# Altium footprint library PcbLib1.PcbLib: 12 footprints
Each footprint in its own frame and in the unit in brackets; x right, y up, seen from the top. Pads: shape width x height; smd on the part's side, far side on the other; paste and mask are expansions set on the pad; w line width, h text height; cw(c..) or ccw(c..) is an arc to the next point about the centre after c.
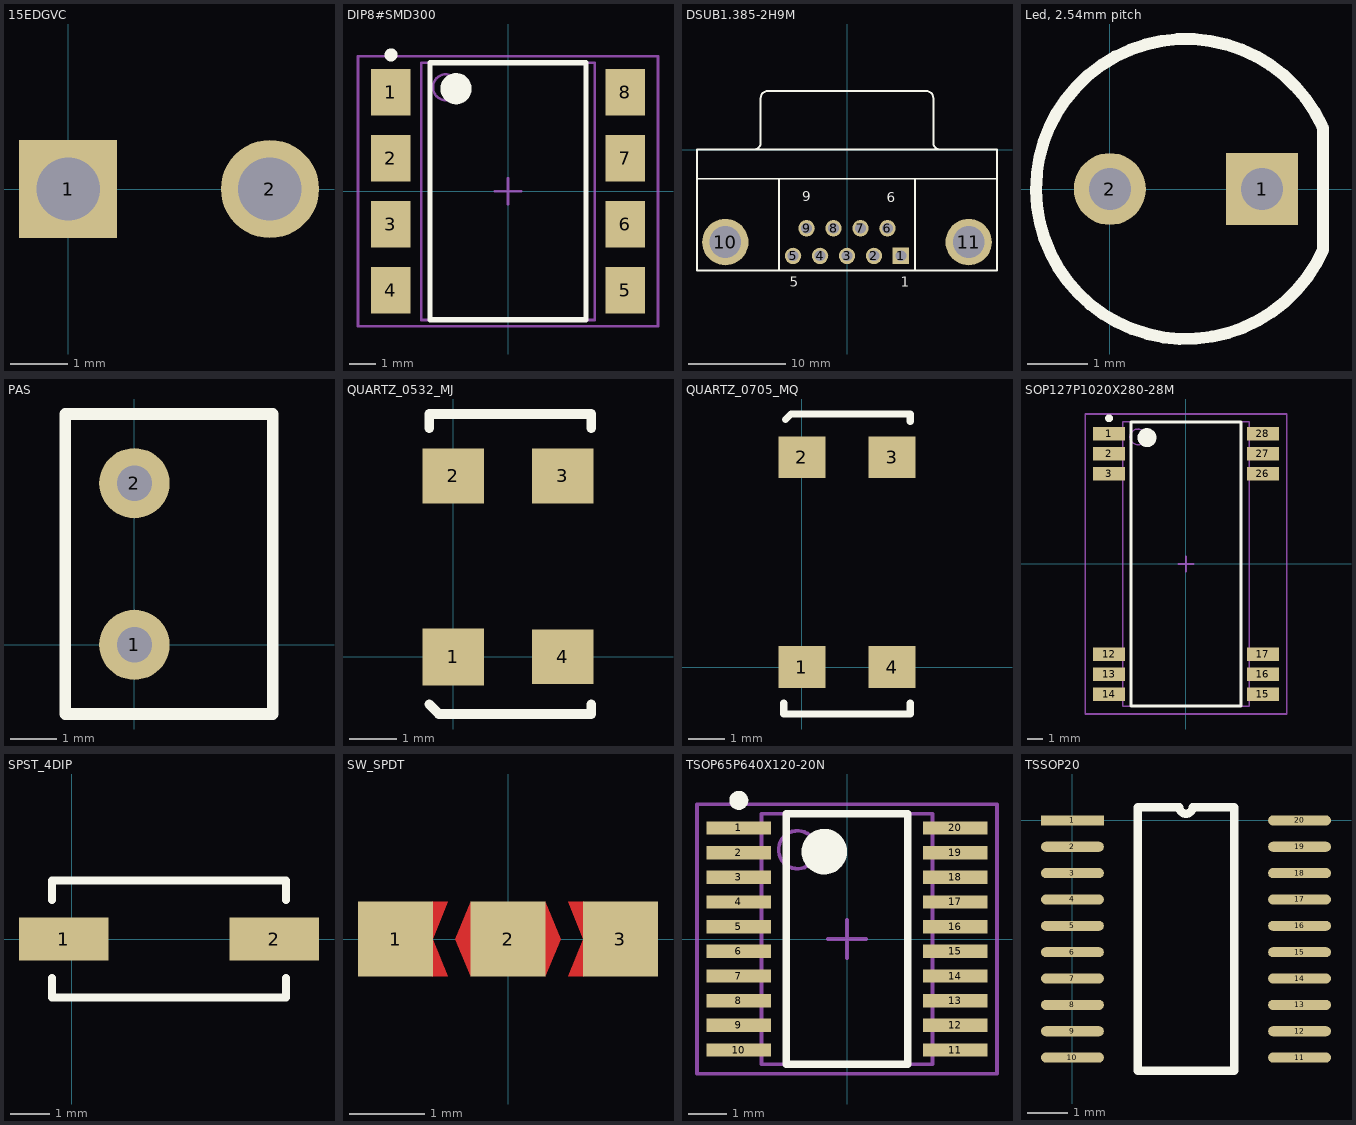
[diagram p0: the footprints below, top view; thin cyan lines are the x and y axes]

## 15EDGVC [mm]
pads (2):
  rect 1.7x1.7 hole 1.1: 1(0,0)
  round 1.7 hole 1.1: 2(3.5,0)
3D body: height 1, standoff 0, extent -2.5,-3 6,3
3D body: height 8, standoff 0, extent 3.1,-0.4 3.9,0.4
3D body: height 8, standoff 0, extent -0.4,-0.4 0.4,0.4
3D body: height 10, standoff 0, extent -4.5,-1 -3,0.5
3D body: height 9.2, standoff 0, extent -1,-1 1,1
3D body: height 9.2, standoff 0.5, extent -2.5,-3 6,3

## DIP8#SMD300 [mm] "SOP, 8-Leads, Body 9,9x6,7mm (max), Pitch 2,54mm, IPC Medium Density"
height 5.08
pads (8):
  rect 1.52x1.78 smd: 1(-4.505,3.81) 2(-4.505,1.27) 3(-4.505,-1.27) 4(-4.505,-3.81) 5(4.505,-3.81) 6(4.505,-1.27) 7(4.505,1.27) 8(4.505,3.81)
Top Overlay:
  circle w0.25: c-4.505,5.25 r0.125
  circle w0.6: c-2,3.95 r0.3
  lines w0.2: -3,-4.95 -3,4.95 3,4.95 3,-4.95 -3,-4.95
Mechanical 13:
  circle w0.1: c-2.39,4.005 r0.5
  lines w0.1: -3.34,-4.955 -3.34,4.955 3.34,4.955 3.34,-4.955 -3.34,-4.955
Mechanical 15:
  lines w0.1: -0.5,0 0.5,0 ; 0,-0.5 0,0.5 ; -5.775,-5.2 -5.775,5.2 5.775,5.2 5.775,-5.2 -5.775,-5.2
3D body: height 5.08, standoff 0.41, extent -3.34,-4.955 3.34,4.955

## DSUB1.385-2H9M [mm] "Connector; D Subminiature; 9 Position; Right Angle; Pitch 1.385 mm"
height 12.75
pads (11):
  rect 1.69x1.69 hole 1.09: 1(5.54,-10.92)
  round 1.69 hole 1.09: 2(2.77,-10.92) 3(0,-10.92) 4(-2.77,-10.92) 5(-5.54,-10.92) 6(4.155,-8.08) 7(1.385,-8.08) 8(-1.385,-8.08) 9(-4.155,-8.08)
  round 4.76 hole 3.26: 10(-12.495,-9.5) 11(12.495,-9.5)
Top Overlay:
  lines w0.2: -15.4,-3 15.4,-3 ; -9.56,0.005 ccw(c-9.56,0.7) -8.865,0.7 -8.865,5.3 ; -8.86,5.305 cw(c-8.165,5.305) -8.165,6 8.165,6 cw(c8.165,5.305) 8.86,5.305 ; -7,-12.4 -7,-3 ; 7,-12.4 7,-3 ; 8.865,5.3 8.865,0.7 ccw(c9.56,0.7) 9.56,0.005 ; -15.4,-12.4 15.4,-12.4 15.4,0 -15.4,0 -15.4,-12.4
  text "6" at 4.1,-5.4 h1
  text "9" at -4.6,-5.3 h1
  text "5" at -5.9,-14.1 h1
  text "1" at 5.5,-14.1 h1

## Led, 2.54mm pitch [mm]
pads (2):
  rect 1.2x1.2 hole 0.7: 1(2.54,0)
  round 1.2 hole 0.7: 2(0,0)
Top Overlay:
  lines w0.2: 3.54,1.048 ccw(c1.27,0) 3.555,-1.015 ; 3.556,-1.016 3.556,1.016

## PAS [mil]
height 157.48
pads (2):
  round 60 hole 30: 1(0,0) 2(0,137.8)
Top Overlay:
  lines w10: -59.06,-59.06 -59.06,196.85 118.11,196.85 118.11,-59.06 -59.06,-59.06

## QUARTZ_0532_MJ [mm]
pads (4):
  rect 1.3x1.2 smd: 1(0,0)
  rect 1.3x1.15 smd: 2(0,3.8) 3(2.3,3.8) 4(2.3,0)
Top Overlay:
  lines w0.2: -0.5,-1 -0.3,-1.2 2.9,-1.2 2.9,-1 ; -0.5,4.8 -0.5,5.1 2.9,5.1 2.9,4.8

## QUARTZ_0705_MQ [mm]
pads (4):
  rect 1.3x1.15 smd: 1(0,0) 2(0,5.8) 3(2.5,5.8) 4(2.5,0)
Top Overlay:
  lines w0.2: -0.5,-1 -0.5,-1.3 3,-1.3 3,-1 ; -0.45,6.85 -0.3,7 3,7 3,6.8

## SOP127P1020X280-28M [mm] "SOP, 28-Leads, Body 18,0x8,0mm (max), Pitch 1,27mm, IPC Low Density"
height 2.8
pads (12):
  rect 2x0.85 smd: 1(-4.875,8.255) 2(-4.875,6.985) 3(-4.875,5.715) 12(-4.875,-5.715) 13(-4.875,-6.985) 14(-4.875,-8.255) 15(4.875,-8.255) 16(4.875,-6.985) 17(4.875,-5.715) 26(4.875,5.715) 27(4.875,6.985) 28(4.875,8.255)
Top Overlay:
  circle w0.6: c-2.475,8 r0.3
  circle w0.25: c-4.875,9.23 r0.125
  lines w0.2: -3.475,-9 3.475,-9 3.475,9 -3.475,9 -3.475,-9
Mechanical 13:
  circle w0.1: c-3.05,8.05 r0.5
  lines w0.1: -4,-9 4,-9 4,9 -4,9 -4,-9
Mechanical 15:
  lines w0.1: -0.5,0 0.5,0 ; 0,-0.5 0,0.5 ; -6.375,-9.5 6.375,-9.5 6.375,9.5 -6.375,9.5 -6.375,-9.5
3D body: height 2.8, standoff 0.15, extent -4,-9 4,9

## SPST_4DIP [mm]
pads (2):
  rect 2.3x1.1 smd: 1(-0.2,0) 2(5.2,0)
Top Overlay:
  lines w0.2: -0.5,-1 -0.5,-1.5 5.5,-1.5 5.5,-1 ; -0.5,1 -0.5,1.5 5.5,1.5 5.5,1

## SW_SPDT [mm]
pads (3):
  rect 1x1 smd: 1(-1.5,0) 2(0,0) 3(1.5,0)
Top Layer:
  region: 0.8,0.5 1,0 0.8,-0.5 1,-0.5 1,0.5
  region: -0.8,0.5 -1,0 -0.8,-0.5 -1,-0.5 -1,0.5
  region: 0.5,0.5 0.7,0 0.5,-0.5
  region: -0.5,0.5 -0.7,0 -0.5,-0.5
Top Solder:
  rectangle: -1,-0.6 0.9,0.6

## TSOP65P640X120-20N [mm] "TSOP, 20-Leads, Body 6,6x4,5mm (max), Pitch 0,65mm, IPC Medium Density"
height 1.2
pads (20):
  rect 1.7x0.35 smd: 1(-2.85,2.925) 2(-2.85,2.275) 3(-2.85,1.625) 4(-2.85,0.975) 5(-2.85,0.325) 6(-2.85,-0.325) 7(-2.85,-0.975) 8(-2.85,-1.625) 9(-2.85,-2.275) 10(-2.85,-2.925) 11(2.85,-2.925) 12(2.85,-2.275) 13(2.85,-1.625) 14(2.85,-0.975) 15(2.85,-0.325) 16(2.85,0.325) 17(2.85,0.975) 18(2.85,1.625) 19(2.85,2.275) 20(2.85,2.925)
Top Overlay:
  circle w0.25: c-2.85,3.65 r0.125
  circle w0.6: c-0.6,2.3 r0.3
  lines w0.2: -1.6,-3.3 -1.6,3.3 1.6,3.3 1.6,-3.3 -1.6,-3.3
Mechanical 13:
  circle w0.1: c-1.3,2.35 r0.5
  lines w0.1: -2.25,-3.3 -2.25,3.3 2.25,3.3 2.25,-3.3 -2.25,-3.3
Mechanical 15:
  lines w0.1: -0.5,0 0.5,0 ; 0,-0.5 0,0.5 ; -3.95,-3.55 -3.95,3.55 3.95,3.55 3.95,-3.55 -3.95,-3.55
3D body: height 1.2, standoff 0.25, extent -2.25,-3.3 2.25,3.3

## TSSOP20 [mm]
pads (20):
  rect 1.55x0.25 smd: 1(0,0)
  oval 1.55x0.25 smd: 2(0,-0.65) 3(0,-1.3) 4(0,-1.95) 5(0,-2.6) 6(0,-3.25) 7(0,-3.9) 8(0,-4.55) 9(0,-5.2) 10(0,-5.85) 11(5.6,-5.85) 12(5.6,-5.2) 13(5.6,-4.55) 14(5.6,-3.9) 15(5.6,-3.25) 16(5.6,-2.6) 17(5.6,-1.95) 18(5.6,-1.3) 19(5.6,-0.65) 20(5.6,0)
Top Overlay:
  lines w0.2: 1.61,-6.175 1.61,0.325 2.638,0.325 ccw(c2.8,0.325) 2.962,0.325 3.99,0.325 3.99,-6.175 1.61,-6.175